# Altium footprint library SC-70.PcbLib: 1 footprints
Each footprint in its own frame and in the unit in brackets; x right, y up, seen from the top. Pads: shape width x height; smd on the part's side, far side on the other; paste and mask are expansions set on the pad; w line width, h text height; cw(c..) or ccw(c..) is an arc to the next point about the centre after c.
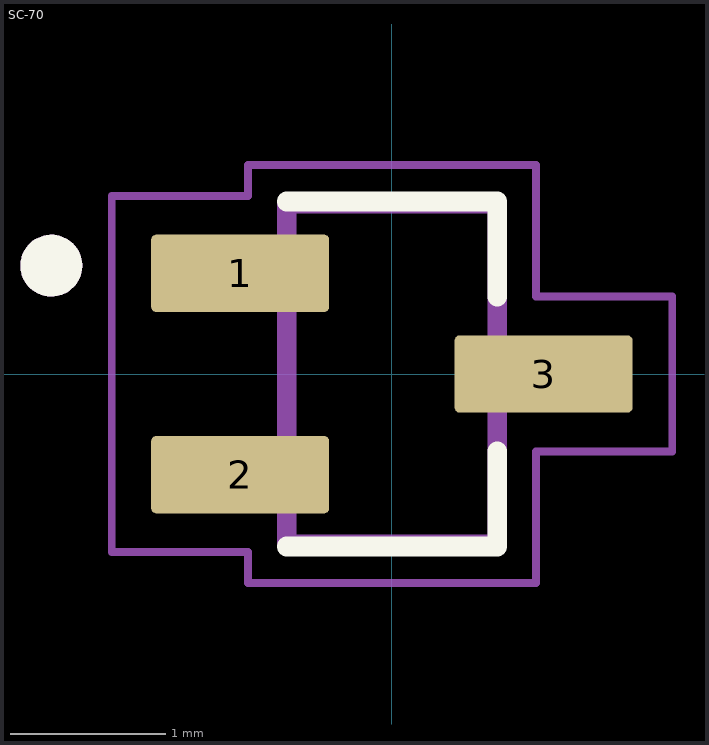
[diagram p0: the footprint, top view; thin cyan lines are the x and y axes]

## SC-70 [mm]
pads (3):
  rrect13% 1.15x0.5 smd: 1(-0.98,0.65) 2(-0.98,-0.65) 3(0.98,0)
Top Overlay:
  circle w0.2: c-2.2,0.7 r0.1
  lines w0.127: -0.68,-1.114 0.68,-1.114 0.68,-0.5 ; -0.68,1.114 0.68,1.114 0.68,0.5
Mechanical 13:
  circle w0.2: c-2.2,0.7 r0.1
  lines w0.127: -0.68,-1.1 0.68,-1.1 0.68,1.1 -0.68,1.1 -0.68,-1.1
Mechanical 15:
  lines w0.05: -1.81,-1.15 -1.81,1.15 -0.93,1.15 -0.93,1.35 0.93,1.35 0.93,0.5 1.81,0.5 1.81,-0.5 0.93,-0.5 0.93,-1.35 -0.93,-1.35 -0.93,-1.15 -1.81,-1.15
3D body "step_temp.STEP": height 0.35, standoff -0.75, extent -1,-1.05 1,1.05